# Altium footprint library GRC PCB library.PcbLib: 166 footprints (part 6 of 11)
Each footprint in its own frame and in the unit in brackets; x right, y up, seen from the top. Pads: shape width x height; smd on the part's side, far side on the other; paste and mask are expansions set on the pad; w line width, h text height; cw(c..) or ccw(c..) is an arc to the next point about the centre after c.
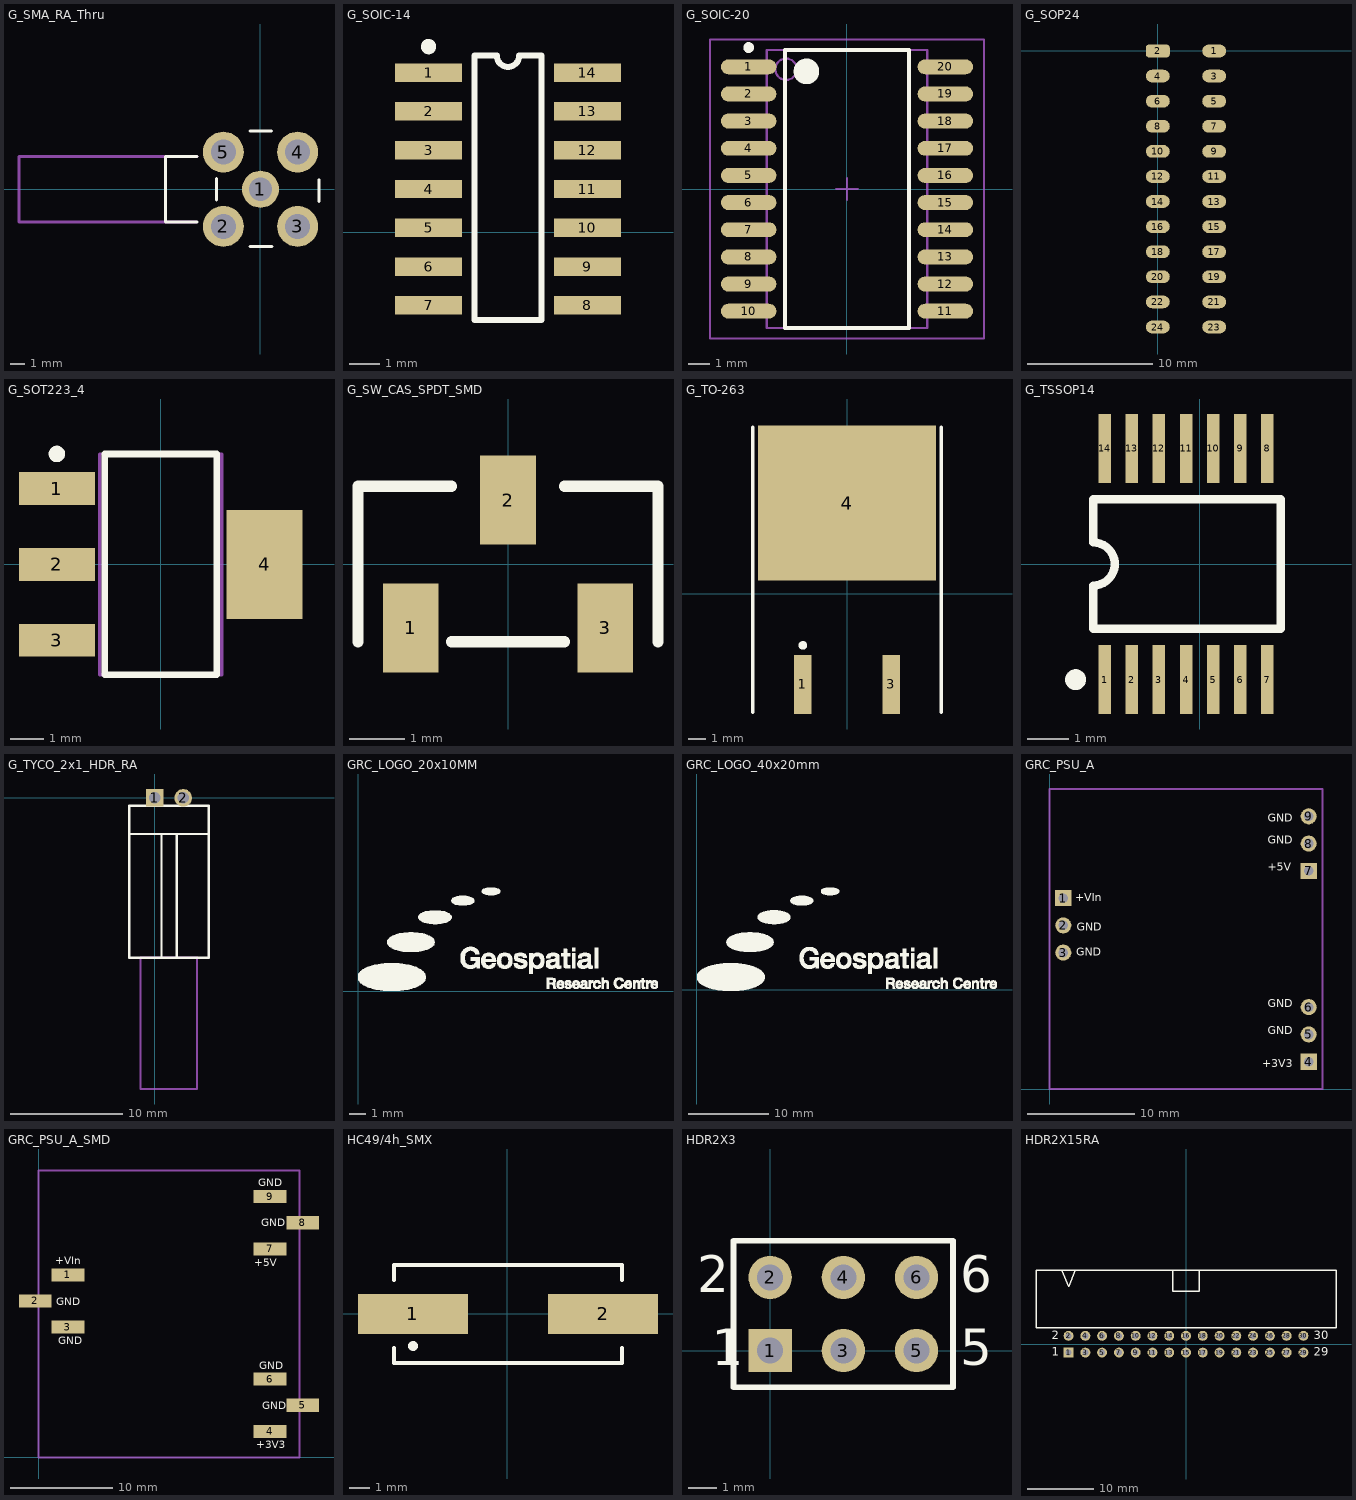
[diagram p5: the footprints below, top view; thin cyan lines are the x and y axes]

## G_SMA_RA_Thru [mm] "Connector; RF Coaxial, SMA< Thru-hole, Right-angle"
height 5.85
pads (5):
  round 2.54 hole 1.575: 1(0,0)
  round 2.8 hole 1.7: 2(-2.54,-2.54) 3(2.54,-2.54) 4(2.54,2.54)
  round 2.794 hole 1.702: 5(-2.54,2.54)
Top Overlay:
  lines w0.2: -4.34,-2.25 -6.5,-2.25 -6.5,2.25 -4.34,2.25 ; -3,-0.74 -3,0.74 ; -0.73,3.975 0.75,3.975 ; -0.705,-3.925 0.775,-3.925 ; 4,-0.83 4,0.65
Mechanical 13:
  lines w0.2: -4.34,-2.25 -16.51,-2.25 -16.51,2.25 -4.34,2.25

## G_SOIC-14 [mm] "SOIC, 14pin, 1.27mm pitch"
height 1.75
pads (14):
  rect 2.2x0.6 smd: 1(-12.97,5.223) 2(-12.97,3.953) 3(-12.97,2.683) 4(-12.97,1.413) 5(-12.97,0.143) 6(-12.97,-1.127) 7(-12.97,-2.397) 8(-7.77,-2.397) 9(-7.77,-1.127) 10(-7.77,0.143) 11(-7.77,1.413) 12(-7.77,2.683) 13(-7.77,3.953) 14(-7.77,5.223)
Top Overlay:
  circle w0.25: c-12.97,6.073 r0.125
  lines w0.2: -11.47,-2.875 -11.47,5.778 -10.737,5.778 ccw(c-10.37,5.778) -10.003,5.778 -9.27,5.778 -9.27,-2.875 -11.47,-2.875

## G_SOIC-20 [mm] "SOIC, 20pins, 1.27 pitch"
height 2.65
pads (20):
  oval 2.6x0.7 smd: 1(-4.6,5.715) 2(-4.6,4.445) 3(-4.6,3.175) 4(-4.6,1.905) 5(-4.6,0.635) 6(-4.6,-0.635) 7(-4.6,-1.905) 8(-4.6,-3.175) 9(-4.6,-4.445) 10(-4.6,-5.715) 11(4.6,-5.715) 12(4.6,-4.445) 13(4.6,-3.175) 14(4.6,-1.905) 15(4.6,-0.635) 16(4.6,0.635) 17(4.6,1.905) 18(4.6,3.175) 19(4.6,4.445) 20(4.6,5.715)
Top Overlay:
  circle w0.25: c-4.6,6.615 r0.125
  circle w0.6: c-1.9,5.5 r0.3
  lines w0.2: -2.9,-6.5 -2.9,6.5 2.9,6.5 2.9,-6.5 -2.9,-6.5
Mechanical 13:
  circle w0.1: c-2.85,5.6 r0.5
  lines w0.1: -3.75,-6.5 -3.75,6.5 3.75,6.5 3.75,-6.5 -3.75,-6.5
Mechanical 15:
  lines w0.1: -0.5,0 0.5,0 ; 0,-0.5 0,0.5 ; -6.4,-7 -6.4,7 6.4,7 6.4,-7 -6.4,-7
3D body: height 2.65, standoff 0, extent -3.75,-6.5 3.75,6.5

## G_SOP24 [mm]
pads (24):
  oval 1.91x1.016 smd: 1(4.494,0) 3(4.494,-2) 4(0,-2) 5(4.494,-4) 6(0,-4) 7(4.494,-6) 8(0,-6) 9(4.494,-8) 10(0,-8) 11(4.494,-10) 12(0,-10) 13(4.494,-12) 14(0,-12) 15(4.494,-14) 16(0,-14) 17(4.494,-16) 18(0,-16) 19(4.494,-18) 20(0,-18) 21(4.494,-20) 22(0,-20) 23(4.494,-22) 24(0,-22)
  rrect50% 1.91x1.016 smd: 2(0,0)

## G_SOT223_4 [mm] "SOT223, 4 pins"
height 1.7
pads (4):
  rect 2.3x1 smd: 1(-3.15,2.3) 2(-3.15,0) 3(-3.15,-2.3)
  rect 2.3x3.3 smd: 4(3.15,0)
Top Overlay:
  circle w0.25: c-3.15,3.35 r0.125
  lines w0.2: -1.7,-3.35 -1.7,3.35 1.7,3.35 1.7,-3.35 -1.7,-3.35
Mechanical 13:
  lines w0.1: -1.85,-3.35 -1.85,3.35 1.85,3.35 1.85,-3.35 -1.85,-3.35
3D body: height 1.8, standoff 0, extent -1.85,-3.35 1.85,3.35

## G_SW_CAS_SPDT_SMD [mm] "SMD Slide Switch CAS120A1 series"
height 2.5
pads (3):
  rect 1x1.6 smd: 1(-1.75,-1.15) 2(0,1.15) 3(1.75,-1.15)
Top Overlay:
  lines w0.2: -2.7,-1.4 -2.7,1.4 -1.016,1.4 ; -1.016,-1.4 1.016,-1.4 ; 1.016,1.4 2.7,1.4 2.7,-1.4

## G_TO-263 [mm] "D2-PAK/TO-263-AB; 3 Leads (1 Cropped); Body 15.9 (inc. leads) x 10.4 mm (LxW max)"
height 4.6
pads (3):
  rect 1x3.4 smd: 1(-2.54,-5.225) 3(2.54,-5.225)
  rect 10.25x8.9 smd: 4(0,5.225)
Top Overlay:
  circle w0.25: c-2.54,-2.975 r0.125
  lines w0.2: -5.425,-6.825 -5.425,9.575 ; 5.425,-6.825 5.425,9.575

## G_TSSOP14 [mm] "Shrink Small Outline; 16 Leads; Body Width 4.4 mm; Pitch 0.65 mm"
height 1.1
pads (14):
  rect 0.3x1.65 smd: 1(-2.275,-2.775) 2(-1.625,-2.775) 3(-0.975,-2.775) 4(-0.325,-2.775) 5(0.325,-2.775) 6(0.975,-2.775) 7(1.625,-2.775) 8(1.625,2.775) 9(0.975,2.775) 10(0.325,2.775) 11(-0.325,2.775) 12(-0.975,2.775) 13(-1.625,2.775) 14(-2.275,2.775)
Top Overlay:
  circle w0.25: c-2.975,-2.775 r0.125
  lines w0.2: 1.95,1.55 -2.55,1.55 -2.55,0.517 cw(c-2.55,0) -2.55,-0.517 -2.55,-1.55 1.95,-1.55 1.95,1.55 ; 1.95,1.55 1.95,1.55

## G_TYCO_2x1_HDR_RA [mil] "Tyco Header Connector 2.54 Single Row Right Angle with Latching"
pads (2):
  rect 62x62 hole 39.4: 1(0,0)
  round 62 hole 39.4: 2(100,0)
Top Overlay:
  lines w7.87: -89.37,-562.54 -89.37,-127.5 ; 189.37,-562.54 189.37,-127.5
  lines w8: -89.37,-562.54 189.37,-562.54 ; 23.62,-562.54 23.62,-127.97 ; 76.77,-562.54 76.77,-127.69 ; -89.37,-127.5 189.37,-127.5 189.37,-27.5 -89.37,-27.5 -89.37,-127.5
Mechanical 13:
  lines w7.87: -50,-1023.62 148.82,-1023.62 148.82,-562.54 -50,-562.54 -50,-1023.62

## GRC_LOGO_20x10MM [mm] "GRC logo 2x1cm"
Top Overlay:
  drawing of 1215 lines, arcs and shapes, not listed

## GRC_LOGO_40x20mm [mm] "GRC logo 4x2 cm"
height 0.001
Top Overlay:
  drawing of 2421 lines, arcs and shapes, not listed

## GRC_PSU_A [mm] "GRC PSU 4-36 Vin 3V3 5V Vout footprint"
height 30
pads (9):
  rect 1.5x1.5 hole 0.9: 1(1.27,17.78) 4(24.13,2.54) 7(24.13,20.32)
  round 1.5 hole 0.9: 2(1.27,15.24) 3(1.27,12.7) 5(24.13,5.08) 6(24.13,7.62) 8(24.13,22.86) 9(24.13,25.4)
Top Overlay:
  text "+5V" at 20.32,20.32 h0.76
  text "+3V3" at 19.812,2.032 h0.76
  text "GND" at 20.32,5.08 h0.76
  text "GND" at 20.32,7.62 h0.76
  text "GND" at 20.32,22.86 h0.76
  text "GND" at 20.32,24.892 h0.76
  text "GND" at 2.5,12.4 h0.76
  text "GND" at 2.54,14.732 h0.76
  text "+VIn" at 2.4,17.5 h0.76
Mechanical 13:
  lines w0.2: 0,0 0,27.94 ; 0,0 25.4,0 ; 0,0 25.4,0 ; 0,0 0,27.94 ; 0,27.94 25.4,27.94 ; 0,27.94 25.4,27.94 ; 25.4,0 25.4,27.94 ; 25.4,0 25.4,27.94

## GRC_PSU_A_SMD [mm] "GRC PSU where the pins are on the host board - SMD version"
height 20
pads (9):
  rect 3.18x1.27 smd: 1(2.857,17.78) 2(-0.323,15.24) 3(2.857,12.7) 4(22.543,2.54) 5(25.723,5.08) 6(22.543,7.62) 7(22.543,20.32) 8(25.723,22.86) 9(22.543,25.4)
Top Overlay:
  text "+5V" at 21.02,18.62 h0.76
  text "+3V3" at 21.2,0.9 h0.76
  text "GND" at 21.8,4.7 h0.76
  text "GND" at 21.5,8.6 h0.76
  text "GND" at 21.7,22.5 h0.76
  text "GND" at 21.4,26.4 h0.76
  text "GND" at 1.9,11 h0.76
  text "GND" at 1.7,14.8 h0.76
  text "+VIn" at 1.6,18.8 h0.76
Mechanical 13:
  lines w0.2: 0,0 0,27.94 ; 0,0 25.4,0 ; 0,0 25.4,0 ; 0,0 0,27.94 ; 0,27.94 25.4,27.94 ; 0,27.94 25.4,27.94 ; 25.4,0 25.4,27.94 ; 25.4,0 25.4,27.94

## HC49/4h_SMX [mm] "Quartz Crystal, SM; Body 13.4 (inc. leads) x 4.9 mm (LxW max)"
height 4.3
pads (2):
  rect 5.5x2 smd: 1(-4.725,0) 2(4.775,0)
Top Overlay:
  circle w0.25: c-4.725,-1.6 r0.125
  lines w0.2: -5.675,-1.7 -5.675,-2.45 5.725,-2.45 5.725,-1.7 ; -5.675,1.7 -5.675,2.45 5.725,2.45 5.725,1.7

## HDR2X3 [mm] "Connector; Header; 3x2 Position"
pads (6):
  rect 1.5x1.5 hole 0.9: 1(0,0)
  round 1.5 hole 0.9: 2(0,2.54) 3(2.54,0) 4(2.54,2.54) 5(5.08,0) 6(5.08,2.54)
Top Overlay:
  lines w0.2: 1.482,-1.27 6.35,-1.27 ; 6.35,-1.27 6.35,3.81 -1.27,3.81 -1.27,-1.27 6.35,-1.27
  text "6" at 6.604,2.032 h1.27
  text "5" at 6.604,-0.508 h1.27
  text "2" at -2.54,2.032 h1.27
  text "1" at -2.032,-0.508 h1.27

## HDR2X15RA [mm] "Connector; Header; 15x2 Position; Right Angle"
height 8.6
pads (30):
  rect 1.5x1.5 hole 0.9: 1(-17.78,-1.27)
  round 1.5 hole 0.9: 2(-17.78,1.27) 3(-15.24,-1.27) 4(-15.24,1.27) 5(-12.7,-1.27) 6(-12.7,1.27) 7(-10.16,-1.27) 8(-10.16,1.27) 9(-7.62,-1.27) 10(-7.62,1.27) 11(-5.08,-1.27) 12(-5.08,1.27) 13(-2.54,-1.27) 14(-2.54,1.27) 15(0,-1.27) 16(0,1.27) 17(2.54,-1.27) 18(2.54,1.27) 19(5.08,-1.27) 20(5.08,1.27) 21(7.62,-1.27) 22(7.62,1.27) 23(10.16,-1.27) 24(10.16,1.27) 25(12.7,-1.27) 26(12.7,1.27) 27(15.24,-1.27) 28(15.24,1.27) 29(17.78,-1.27) 30(17.78,1.27)
Top Overlay:
  lines w0.2: -18.78,11.17 -17.78,8.73 -16.78,11.17 ; -2,11.17 -2,8 2,8 2,11.17 ; -22.71,2.5 -22.71,11.17 22.71,11.17 22.71,2.5 -22.71,2.5
  text "2" at -20.32,0.762 h1.27
  text "1" at -20.32,-1.778 h1.27
  text "29" at 19.304,-1.778 h1.27
  text "30" at 19.304,0.762 h1.27